# Altium footprint library PilotMap-Main-Parts.PcbLib: 12 footprints
Each footprint in its own frame and in the unit in brackets; x right, y up, seen from the top. Pads: shape width x height; smd on the part's side, far side on the other; paste and mask are expansions set on the pad; w line width, h text height; cw(c..) or ccw(c..) is an arc to the next point about the centre after c.
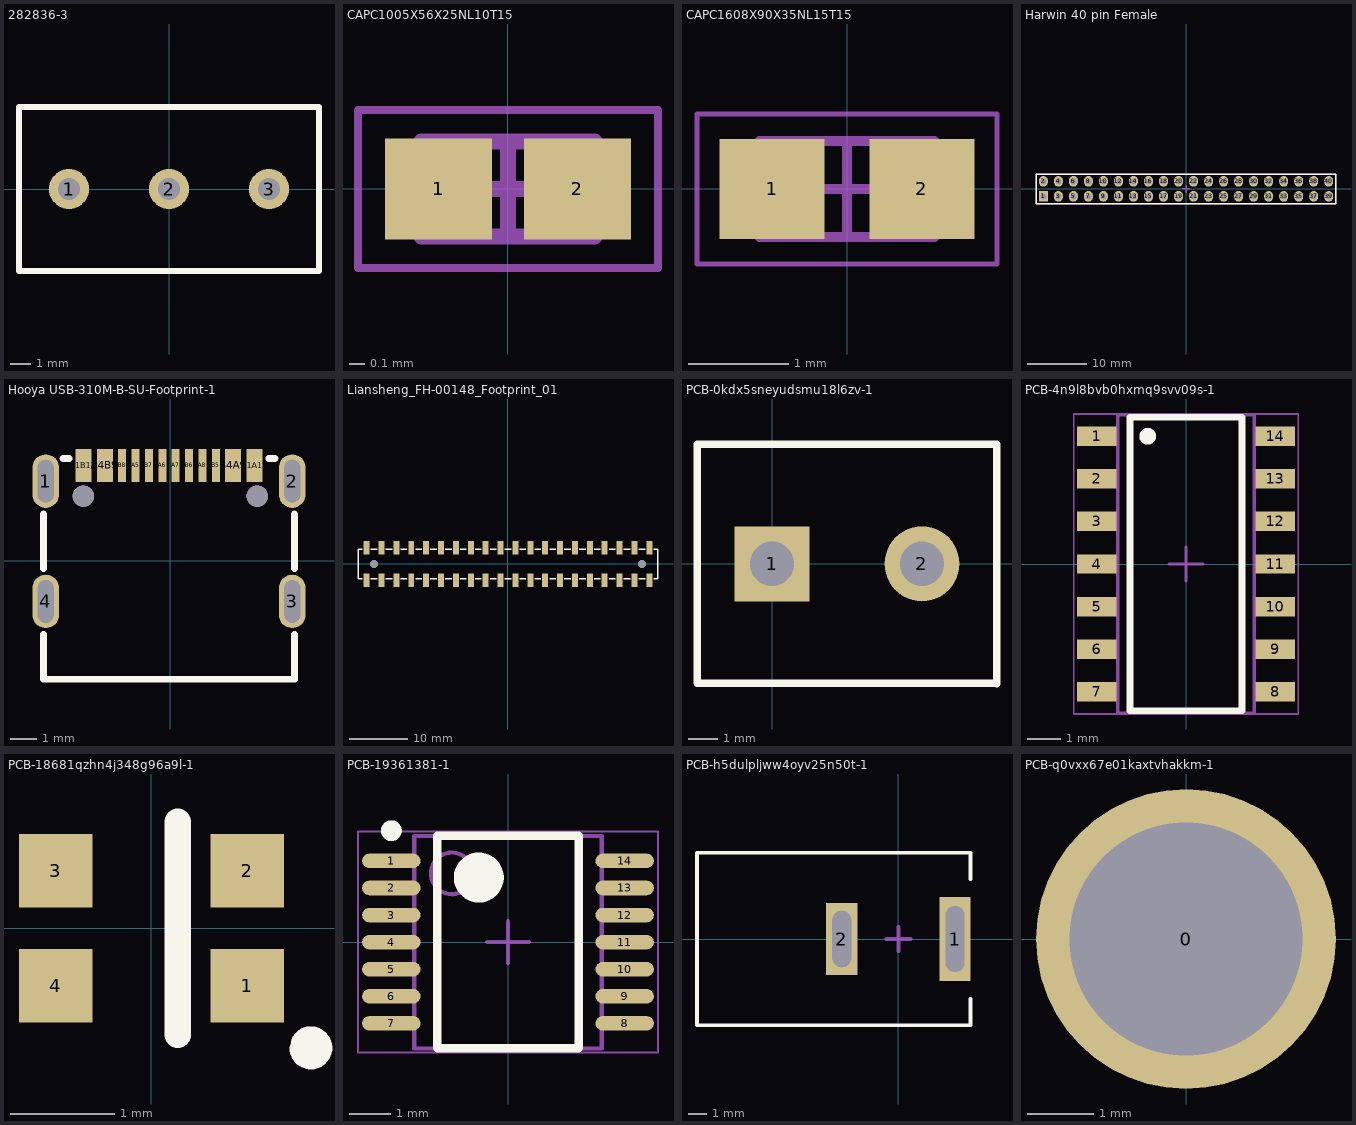
[diagram p0: the footprints below, top view; thin cyan lines are the x and y axes]

## 282836-3 [mm]
pads (3):
  round 2 hole 1.1: 1(-5,0) 2(0,0) 3(5,0)
Top Overlay:
  lines w0.3: -7.5,-4.1 7.5,-4.1 7.5,4.1 -7.5,4.1 -7.5,-4.1
3D body "c-282836-3-h-3d.stp": height 10, standoff -3.5, extent -8.107,-4.1 7.493,4.1

## CAPC1005X56X25NL10T15 [mm]
pads (2):
  rect 0.68x0.64 smd: 1(-0.44,0) 2(0.44,0)
Mechanical 13:
  lines w0.1: -0.55,-0.3 0.55,-0.3 0.55,0.3 -0.55,0.3 -0.55,-0.3
Mechanical 15:
  lines w0.05: -0.95,-0.5 0.95,-0.5 0.95,0.5 -0.95,0.5 -0.95,-0.5
  lines w0.1: -0.3,0 0.3,0 ; 0,-0.3 0,0.3
3D body: height 0.56, standoff 0, extent 0.3,-0.3 0.55,0.3
3D body: height 0.56, standoff 0, extent -0.55,-0.3 -0.3,0.3
3D body: height 0.56, standoff 0, extent -0.3,-0.3 0.3,0.3

## CAPC1608X90X35NL15T15 [mm]
pads (2):
  rect 1.05x1 smd: 1(-0.75,0) 2(0.75,0)
Mechanical 13:
  lines w0.1: -0.875,-0.48 0.875,-0.48 0.875,0.48 -0.875,0.48 -0.875,-0.48
Mechanical 15:
  lines w0.05: -1.5,-0.75 1.5,-0.75 1.5,0.75 -1.5,0.75 -1.5,-0.75
  lines w0.1: -0.48,0 0.48,0 ; 0,-0.48 0,0.48
3D body "User Library-RES_1609-0603.step": height 0.56, standoff 0, extent -0.85,-0.4 0.85,0.4

## Harwin 40 pin Female [mm]
pads (40):
  rect 1.5x1.8 hole 1: 1(-24.13,-1.27)
  oval 1.5x1.8 hole 1: 2(-24.13,1.27) 3(-21.59,-1.27) 4(-21.59,1.27) 5(-19.05,-1.27) 6(-19.05,1.27) 7(-16.51,-1.27) 8(-16.51,1.27) 9(-13.97,-1.27) 10(-13.97,1.27) 11(-11.43,-1.27) 12(-11.43,1.27) 13(-8.89,-1.27) 14(-8.89,1.27) 15(-6.35,-1.27) 16(-6.35,1.27) 17(-3.81,-1.27) 18(-3.81,1.27) 19(-1.27,-1.27) 20(-1.27,1.27) 21(1.27,-1.27) 22(1.27,1.27) 23(3.81,-1.27) 24(3.81,1.27) 25(6.35,-1.27) 26(6.35,1.27) 27(8.89,-1.27) 28(8.89,1.27) 29(11.43,-1.27) 30(11.43,1.27) 31(13.97,-1.27) 32(13.97,1.27) 33(16.51,-1.27) 34(16.51,1.27) 35(19.05,-1.27) 36(19.05,1.27) 37(21.59,-1.27) 38(21.59,1.27) 39(24.13,-1.27) 40(24.13,1.27)
Top Overlay:
  lines w0.25: -25.38,-2.52 25.37,-2.52 25.37,2.48 -25.38,2.48 -25.38,-2.52
Mechanical 6:
  text ".designator" at -24.765,-4.445 h1
Mechanical 8:
  lines w0.25: -25.38,-2.52 25.37,-2.52 25.37,2.48 -25.38,2.48 -25.38,-2.52
Mechanical 15:
  lines w0.25: -0.635,0 0.635,0 ; 0,-0.635 0,0.635 ; -25.38,-2.52 25.37,-2.52 25.37,2.48 -25.38,2.48 -25.38,-2.52
3D body "m20-7832046_asm.stp": height 8.5, standoff -3, extent -25.6,-2.52 25.6,2.52

## Hooya USB-310M-B-SU-Footprint-1 [mm]
pads (18):
  oval 1x2 hole 0.6 slot 1.6 at 90 deg: 1(-4.648,2.976) 2(4.572,2.976) 3(4.572,-1.524) 4(-4.648,-1.524)
  rect 0.6x1.25 smd: A1B12(-3.238,3.561) A4B9(-2.438,3.561) B1A12(3.162,3.561) B4A9(2.362,3.561)
  rect 0.3x1.25 smd: A5(-1.288,3.561) A6(-0.288,3.561) A7(0.212,3.561) A8(1.212,3.561) B5(1.712,3.561) B6(0.712,3.561) B7(-0.788,3.561) B8(-1.788,3.561)
  round 0.8 hole 0.8 unplated: MountHole1(-3.238,2.416) MountHole2(3.262,2.416)
Top Overlay:
  lines w0.254: -4.737,-2.75 -4.737,-4.433 4.661,-4.433 4.661,-2.75 ; -4.737,-0.298 -4.737,1.75 ; -4.005,3.822 -3.769,3.822 ; 3.693,3.822 3.929,3.822 ; 4.661,-0.298 4.661,1.75
Top Paste:
  region: 4.072,-1.024 4.072,-0.925 4.148,-0.741 4.289,-0.6 4.472,-0.524 4.671,-0.524 4.855,-0.6 4.996,-0.741 5.072,-0.925 5.072,-1.024 5.072,-2.024 5.072,-2.123 4.996,-2.307 4.855,-2.448 4.671,-2.524 4.472,-2.524 4.289,-2.448 4.148,-2.307 4.072,-2.123 4.072,-2.024
  region: -5.148,-1.024 -5.148,-0.925 -5.072,-0.741 -4.931,-0.6 -4.748,-0.524 -4.549,-0.524 -4.365,-0.6 -4.224,-0.741 -4.148,-0.925 -4.148,-1.024 -4.148,-2.024 -4.148,-2.123 -4.224,-2.307 -4.365,-2.448 -4.549,-2.524 -4.748,-2.524 -4.931,-2.448 -5.072,-2.307 -5.148,-2.123 -5.148,-2.024
  region: -5.148,3.476 -5.148,3.575 -5.072,3.759 -4.931,3.9 -4.748,3.976 -4.549,3.976 -4.365,3.9 -4.224,3.759 -4.148,3.575 -4.148,3.476 -4.148,2.476 -4.148,2.376 -4.224,2.193 -4.365,2.052 -4.549,1.976 -4.748,1.976 -4.931,2.052 -5.072,2.193 -5.148,2.376 -5.148,2.476
  region: 4.072,3.476 4.072,3.575 4.148,3.759 4.289,3.9 4.472,3.976 4.671,3.976 4.855,3.9 4.996,3.759 5.072,3.575 5.072,3.476 5.072,2.476 5.072,2.376 4.996,2.193 4.855,2.052 4.671,1.976 4.472,1.976 4.289,2.052 4.148,2.193 4.072,2.376 4.072,2.476
  region: 2.862,4.186 3.462,4.186 3.462,2.936 2.862,2.936
  region: 2.062,4.186 2.662,4.186 2.662,2.936 2.062,2.936
  region: 1.562,4.186 1.862,4.186 1.862,2.936 1.562,2.936
  region: 1.062,4.186 1.362,4.186 1.362,2.936 1.062,2.936
  region: 0.562,4.186 0.862,4.186 0.862,2.936 0.562,2.936
  region: 0.062,4.186 0.362,4.186 0.362,2.936 0.062,2.936
  region: -0.438,4.186 -0.138,4.186 -0.138,2.936 -0.438,2.936
  region: -0.938,4.186 -0.638,4.186 -0.638,2.936 -0.938,2.936
  region: -1.438,4.186 -1.138,4.186 -1.138,2.936 -1.438,2.936
  region: -1.938,4.186 -1.638,4.186 -1.638,2.936 -1.938,2.936
  region: -2.738,4.186 -2.138,4.186 -2.138,2.936 -2.738,2.936
  region: -3.538,4.186 -2.938,4.186 -2.938,2.936 -3.538,2.936
Mechanical 15:
  circle w0.3: c-3.238,2.416 r0.15
  circle w0.3: c3.262,2.416 r0.15

## Liansheng_FH-00148_Footprint_01 [mm]
pads (42):
  rect 1.02x2.3 smd: 1(-24.13,-2.75) 2(-21.59,-2.75) 3(-19.05,-2.75) 4(-16.51,-2.75) 5(-13.97,-2.75) 6(-11.43,-2.75) 7(-8.89,-2.75) 8(-6.35,-2.75) 9(-3.81,-2.75) 10(-1.27,-2.75) 11(1.27,-2.75) 12(3.81,-2.75) 13(6.35,-2.75) 14(8.89,-2.75) 15(11.43,-2.75) 16(13.97,-2.75) 17(16.51,-2.75) 18(19.05,-2.75) 19(21.59,-2.75) 20(24.13,-2.75) 21(-24.13,2.75) 22(-21.59,2.75) 23(-19.05,2.75) 24(-16.51,2.75) 25(-13.97,2.75) 26(-11.43,2.75) 27(-8.89,2.75) 28(-6.35,2.75) 29(-3.81,2.75) 30(-1.27,2.75) 31(1.27,2.75) 32(3.81,2.75) 33(6.35,2.75) 34(8.89,2.75) 35(11.43,2.75) 36(13.97,2.75) 37(16.51,2.75) 38(19.05,2.75) 39(21.59,2.75) 40(24.13,2.75)
  round 1.3 hole 1.3 unplated: MountHole1(-22.86,0) MountHole2(22.86,0)
Top Overlay:
  lines w0.254: -24.871,-2.54 -25.6,-2.54 -25.6,2.54 -24.871,2.54 ; -23.389,-2.54 -22.331,-2.54 ; -23.389,2.54 -22.331,2.54 ; -20.849,-2.54 -19.791,-2.54 ; -20.849,2.54 -19.791,2.54 ; -18.309,-2.54 -17.251,-2.54 ; -18.309,2.54 -17.251,2.54 ; -15.769,-2.54 -14.711,-2.54 ; -15.769,2.54 -14.711,2.54 ; -13.229,-2.54 -12.171,-2.54 ; -13.229,2.54 -12.171,2.54 ; -10.689,-2.54 -9.631,-2.54 ; -10.689,2.54 -9.631,2.54 ; -8.149,-2.54 -7.091,-2.54 ; -8.149,2.54 -7.091,2.54 ; -5.609,-2.54 -4.551,-2.54 ; -5.609,2.54 -4.551,2.54 ; -3.069,-2.54 -2.011,-2.54 ; -3.069,2.54 -2.011,2.54 ; -0.529,-2.54 0.529,-2.54 ; -0.529,2.54 0.529,2.54 ; 2.011,-2.54 3.069,-2.54 ; 2.011,2.54 3.069,2.54 ; 4.551,-2.54 5.609,-2.54 ; 4.551,2.54 5.609,2.54 ; 7.091,-2.54 8.149,-2.54 ; 7.091,2.54 8.149,2.54 ; 9.631,-2.54 10.689,-2.54 ; 9.631,2.54 10.689,2.54 ; 12.171,-2.54 13.229,-2.54 ; 12.171,2.54 13.229,2.54 ; 14.711,-2.54 15.769,-2.54 ; 14.711,2.54 15.769,2.54 ; 17.251,-2.54 18.309,-2.54 ; 17.251,2.54 18.309,2.54 ; 19.791,-2.54 20.849,-2.54 ; 19.791,2.54 20.849,2.54 ; 22.331,-2.54 23.389,-2.54 ; 22.331,2.54 23.389,2.54 ; 24.871,-2.54 25.6,-2.54 25.6,2.54 24.871,2.54
Mechanical 15:
  circle w0.5: c-22.86,0 r0.25
  circle w0.5: c22.86,0 r0.25
3D body "61004021821 (rev1).stp": height 7.42, standoff -0.03, extent -25.65,-3.35 25.65,3.35

## PCB-0kdx5sneyudsmu18l6zv-1 [mm]
pads (2):
  rect 2.54x2.54 hole 1.5: 1(0,0)
  round 2.54 hole 1.5: 2(5.08,0)
Top Overlay:
  lines w0.254: 7.62,-4.064 7.62,4.05 -2.54,4.05 -2.54,-4.05 7.62,-4.05
3D body "1729128.stp": height 10.01, standoff -3.49, extent -3.079,-4.036 7.651,4.064

## PCB-4n9l8bvb0hxmq9svv09s-1 [mm]
pads (14):
  rect 1.18x0.58 smd: 1(-2.66,3.81) 2(-2.66,2.54) 3(-2.66,1.27) 4(-2.66,0) 5(-2.66,-1.27) 6(-2.66,-2.54) 7(-2.66,-3.81) 8(2.66,-3.81) 9(2.66,-2.54) 10(2.66,-1.27) 11(2.66,0) 12(2.66,1.27) 13(2.66,2.54) 14(2.66,3.81)
Top Overlay:
  circle w0.25: c-1.143,3.81 r0.125
  lines w0.2: -1.67,-4.375 -1.67,4.375 1.67,4.375 1.67,-4.375 -1.67,-4.375
Mechanical 13:
  lines w0.1: -2.032,-4.445 2.032,-4.445
  lines w0.102: -2.032,-4.445 -2.032,4.445 2.032,4.445 2.032,-4.445
Mechanical 15:
  lines w0.05: -3.35,-4.475 3.35,-4.475 3.35,4.475 -3.35,4.475 -3.35,-4.475
  lines w0.1: -0.5,0 0.5,0 ; 0,-0.5 0,0.5
3D body "soic-14.STEP": height 1.6, standoff 0, extent -3.022,-4.318 3.023,4.318

## PCB-18681qzhn4j348g96a9l-1 [mm]
pads (4):
  rect 0.7x0.7 smd: 1(0.915,-0.55) 2(0.915,0.55) 3(-0.915,0.55) 4(-0.915,-0.55)
Top Overlay:
  lines w0.254: 0.254,-1.016 0.254,1.016 ; 1.447,-1.155 ccw(c1.524,-1.143) 1.46,-1.098
Keep-Out Layer:
  text "." at -0.076,-0.076 h1.78
3D body "WS2812-2020.STEP": height 0.84, standoff 0, extent -1.1,-0.984 1.1,1.016

## PCB-19361381-1 [mm]
pads (14):
  oval 1.4x0.35 smd: 1(-2.8,1.95) 2(-2.8,1.3) 3(-2.8,0.65) 4(-2.8,0) 5(-2.8,-0.65) 6(-2.8,-1.3) 7(-2.8,-1.95) 8(2.8,-1.95) 9(2.8,-1.3) 10(2.8,-0.65) 11(2.8,0) 12(2.8,0.65) 13(2.8,1.3) 14(2.8,1.95)
Top Overlay:
  circle w0.6: c-0.7,1.55 r0.3
  circle w0.25: c-2.8,2.675 r0.125
  lines w0.2: -1.7,-2.55 1.7,-2.55 1.7,2.55 -1.7,2.55 -1.7,-2.55
Mechanical 13:
  circle w0.1: c-1.35,1.65 r0.5
  lines w0.1: -2.25,-2.55 2.25,-2.55 2.25,2.55 -2.25,2.55 -2.25,-2.55
Mechanical 15:
  lines w0.05: -3.6,-2.65 3.6,-2.65 3.6,2.65 -3.6,2.65 -3.6,-2.65
  lines w0.1: -0.5,0 0.5,0 ; 0,-0.5 0,0.5
3D body: height 1.2, standoff 0.05, extent -2.25,-2.55 2.25,2.55

## PCB-h5dulpljww4oyv25n50t-1 [mm]
pads (2):
  rect 1.651x4.445 hole 1 slot 3.5 at 90 deg mask+0.038: 1(3,0)
  rect 1.651x3.81 hole 1 slot 3 at 90 deg mask+0.038: 2(-3,0)
Top Overlay:
  lines w0.203: 3.81,-3.175 3.81,-4.572 -10.668,-4.572 -10.668,4.572 3.81,4.572 3.81,3.175
Mechanical 15:
  lines w0.203: -0.635,0 0.635,0 ; 0,-0.635 0,0.635
3D body "CUI_DEVICES_PJ-037A.step": height 11, standoff -3.49, extent -10.7,-4.5 3.8,4.5

## PCB-q0vxx67e01kaxtvhakkm-1 [mm]
pads (1):
  round 4.5 hole 3.5: 0(0,0)